# EAGLE library part MOLEX_52103_0419 (library Traficon)
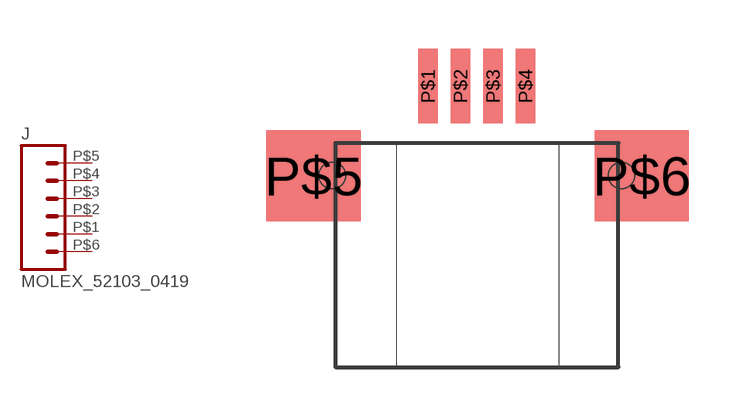
[diagram p155: symbol with the pads of MOLEX_4P_1MM_FPC; footprint MOLEX_4P_1MM_FPC]

Designator prefix J

## MOLEX_52103_0419  [MOLEX_4P_1MM_FPC]
P$1  1
P$2  2
P$3  3
P$4  4
P$5  P$1  pas
P$6  P$2  pas

## Footprint MOLEX_4P_1MM_FPC (pad centres in mm)
smd 0.6 x 2.3: P$1 -1.519,4.359; P$2 -0.519,4.359; P$3 0.481,4.359; P$4 1.481,4.359
smd 2.9 x 2.8: P$5 -5.05,1.6; P$6 5.05,1.6
hole 0.8 at -4.469,1.609
hole 0.8 at 4.431,1.609